# EAGLE library part 610021243021 (library Wuerth_Elektronik_eiCan_Pin_&_Socked_Headers_v1.3)
WR-PHD 2.54mm SMT Dual Socket Header Bottom Entry, 32 Pins
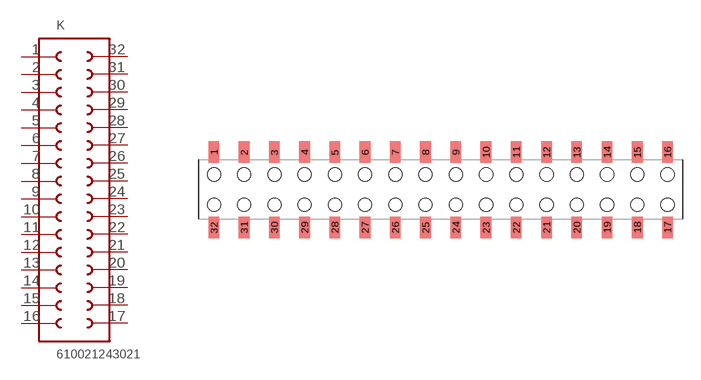
[diagram p230: symbol with the pads of 610032243021; footprint 610032243021]

Designator prefix K

## 610021243021  [610032243021]
1  1  pas
2  2  pas
3  3  pas
4  4  pas
5  5  pas
6  6  pas
7  7  pas
8  8  pas
9  9  pas
10  10  pas
11  11  pas
12  12  pas
13  13  pas
14  14  pas
15  15  pas
16  16  pas
17  17  pas
18  18  pas
19  19  pas
20  20  pas
21  21  pas
22  22  pas
23  23  pas
24  24  pas
25  25  pas
26  26  pas
27  27  pas
28  28  pas
29  29  pas
30  30  pas
31  31  pas
32  32  pas

## Footprint 610032243021 (pad centres in mm)
WR-PHD 2.54mm SMT Dual Socket Header Bottom Entry, 32 Pins
smd 0.9 x 1.8: 1 -20.32,3.15; 2 -17.79,3.14; 3 -15.25,3.14; 4 -12.71,3.14; 5 -10.17,3.14; 6 -7.63,3.14; 7 -5.09,3.14; 8 -2.55,3.14; 9 -0.01,3.14; 10 2.53,3.14; 11 5.07,3.14; 12 7.61,3.14; 13 10.15,3.14; 14 12.69,3.14; 15 15.23,3.14; 16 17.77,3.14; 17 17.77,-3.16; 18 15.23,-3.16; 19 12.69,-3.16; 20 10.15,-3.16; 21 7.61,-3.16; 22 5.07,-3.16; 23 2.53,-3.16; 24 -0.01,-3.16; 25 -2.55,-3.16; 26 -5.09,-3.16; 27 -7.63,-3.16; 28 -10.17,-3.16; 29 -12.71,-3.16; 30 -15.25,-3.16; 31 -17.79,-3.16; 32 -20.32,-3.17
hole 1.1 at -20.32,1.27
hole 1.1 at -17.78,1.27
hole 1.1 at -17.78,-1.27
hole 1.1 at -20.32,-1.27
hole 1.1 at -15.24,1.27
hole 1.1 at -15.24,-1.27
hole 1.1 at -12.7,1.27
hole 1.1 at -12.7,-1.27
hole 1.1 at -10.16,1.27
hole 1.1 at -10.16,-1.27
hole 1.1 at -7.62,1.27
hole 1.1 at -7.62,-1.27
hole 1.1 at -5.08,1.27
hole 1.1 at -5.08,-1.27
hole 1.1 at -2.54,1.27
hole 1.1 at -2.54,-1.27
hole 1.1 at 0,1.27
hole 1.1 at 0,-1.27
hole 1.1 at 2.54,1.27
hole 1.1 at 2.54,-1.27
hole 1.1 at 5.08,1.27
hole 1.1 at 5.08,-1.27
hole 1.1 at 7.62,1.27
hole 1.1 at 7.62,-1.27
hole 1.1 at 10.16,1.27
hole 1.1 at 10.16,-1.27
hole 1.1 at 12.7,1.27
hole 1.1 at 12.7,-1.27
hole 1.1 at 15.24,1.27
hole 1.1 at 15.24,-1.27
hole 1.1 at 17.78,1.27
hole 1.1 at 17.78,-1.27